# Altium schematic symbol library LT3751IUFD#PBF.SchLib: 1 symbol
Pins are listed as number, name and electrical type; pins without a type are passive.

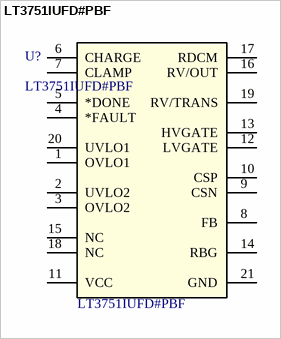
[diagram p0: symbol LT3751IUFD#PBF]

## LT3751IUFD#PBF
designator U?
Photoflash Capacitor Charger PMIC 20-QFN (4x5); Mfr_Name: Analog Devices / Linear Technology; Copyright: Copyright (C) 2021 Ultra Librarian. All rights reserved.; Manufacturer_Part_Number: lt3751iufd#pbf; Digi-Key_Part_Number_1: LT3751IUFD#PBF-ND; RefDes: RefDes; Type: DEV; Supplier 1: Digi-Key; Supplier 2: Arrow Electronics; Supplier 3: Mouser; Supplier Part Number 2: LT3751IUFD#PBF
footprint QFN-20_UFD_LIT-M
pins: 1 OVLO1, 2 UVLO2, 3 OVLO2, 4 *FAULT, 5 *DONE, 6 CHARGE, 7 CLAMP, 8 FB, 9 CSN, 10 CSP, 11 VCC (power), 12 LVGATE, 13 HVGATE, 14 RBG, 15 NC, 16 RV/OUT, 17 RDCM, 18 NC, 19 RV/TRANS, 20 UVLO1, 21 GND